# Altium schematic symbol library 2020-01-03_16-24-17.SchLib: 2 symbols
Pins are listed as number, name and electrical type; pins without a type are passive.

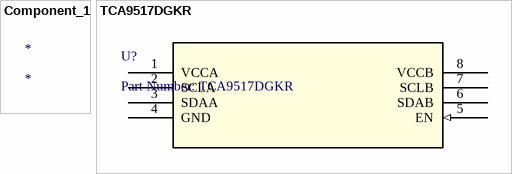
[diagram p0: symbols Component_1 to TCA9517DGKR]

## Component_1
designator *

## TCA9517DGKR
designator U?, comment Part Number: TCA9517DGKR
No Description Available; Vendor: Texas Instruments; Built_By: EMA_UL_Team; Manufacturer_Part_Number: TCA9517DGKR; Copyright: Copyright (C) 2018 Accelerated Designs. All rights reserved; RefDes: RefDes; Type: DEV; Value: Value
footprint DGK8
pins: 1 VCCA (power), 2 SCLA, 3 SDAA, 4 GND (power), 5 EN (in), 6 SDAB, 7 SCLB, 8 VCCB (power)